# Altium footprint library LPON_IC.PcbLib: 50 footprints (part 3 of 4)
Each footprint in its own frame and in the unit in brackets; x right, y up, seen from the top. Pads: shape width x height; smd on the part's side, far side on the other; paste and mask are expansions set on the pad; w line width, h text height; cw(c..) or ccw(c..) is an arc to the next point about the centre after c.
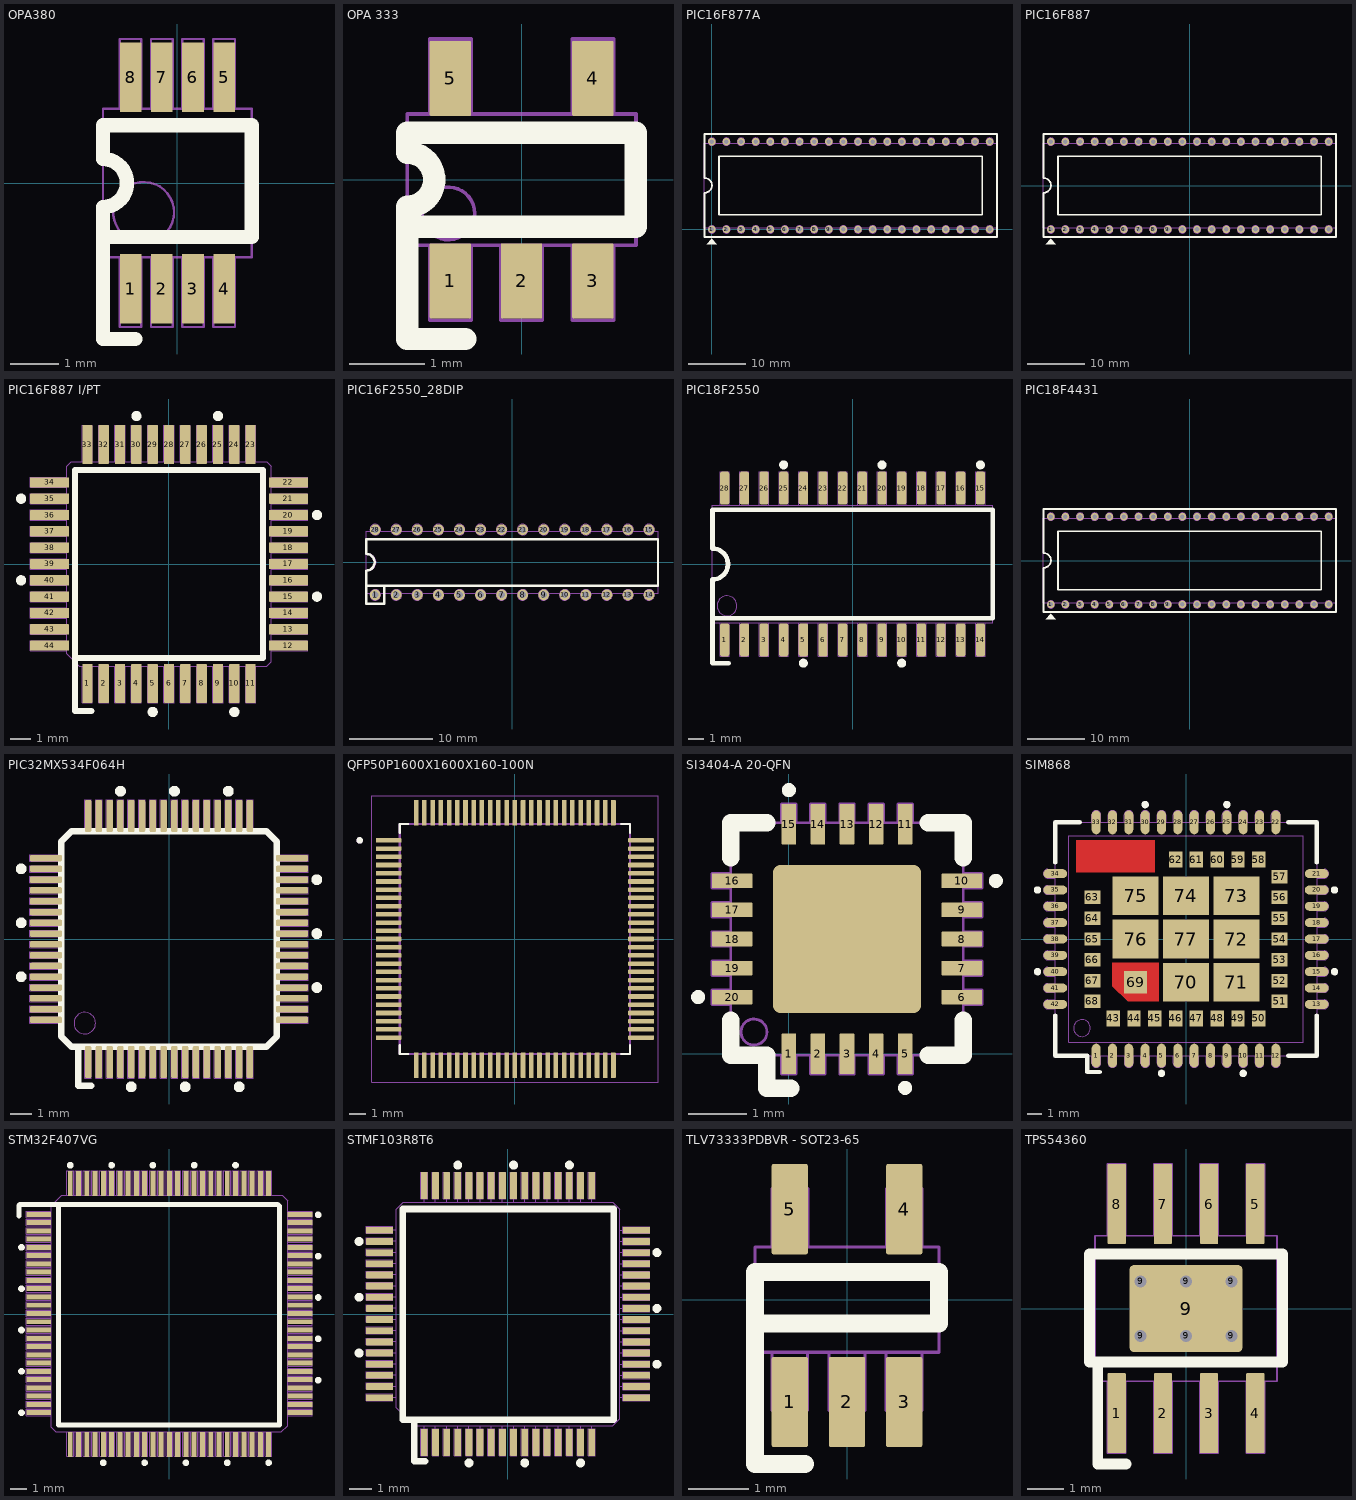
[diagram p2: the footprints below, top view; thin cyan lines are the x and y axes]

## OPA380 [mm] "8 PIN DGK package"
height 1.75
pads (8):
  rrect5% 0.45x1.45 smd mask+0.05: 1(-0.975,-2.2) 2(-0.325,-2.2) 3(0.325,-2.2) 4(0.975,-2.2) 5(0.975,2.2) 6(0.325,2.2) 7(-0.325,2.2) 8(-0.975,2.2)
Top Overlay:
  lines w0.3: -0.875,-3.25 -1.55,-3.25 -1.55,-1.125 ; -1.55,-1.125 1.55,-1.125 1.55,1.2 -1.55,1.2 -1.55,0.5 cw(c-1.55,0) -1.55,-0.5 -1.55,-1.125
ASSY-C:
  circle w0.05: c-0.703,-0.61 r0.632
  lines w0.05: -1.2,-1.55 -1.2,-3 -0.75,-3 -0.75,-1.55 ; -1.2,1.55 -1.2,3 -0.75,3 -0.75,1.55 ; -0.55,-1.575 -0.55,-3 -0.1,-3 -0.1,-1.55 ; -0.55,1.55 -0.55,3 -0.1,3 -0.1,1.55 ; 0.1,-1.55 0.1,-3 0.55,-3 0.55,-1.55 ; 0.1,1.55 0.1,3 0.55,3 0.55,1.55 ; 0.75,-3 0.75,-1.55 ; 0.75,1.55 0.75,3 1.2,3 1.2,1.55 ; 0.775,-3 1.2,-3 1.2,-1.55 ; -1.55,-1.55 -1.55,1.55 1.55,1.55 1.55,-1.55 -1.55,-1.55
  text "8" at -1.1,0.825 h0.5
  text "5" at 0.9,0.85 h0.5
  text "4" at 0.95,-1.35 h0.5
  text "IC?" at 0,0 h0.5

## OPA 333 [mm] "OP APM DBV package"
height 5
pads (5):
  rrect5% 0.55x1 smd mask+0.05: 1(-0.95,-1.35) 2(0,-1.35) 3(0.95,-1.35) 4(0.95,1.35) 5(-0.95,1.35)
Top Overlay:
  lines w0.3: -0.75,-2.125 -1.525,-2.125 -1.525,-0.625 ; -1.525,-0.625 -1.525,-0.361 ccw(c-1.525,0) -1.525,0.361 -1.525,0.625 1.525,0.625 1.525,-0.625 -1.525,-0.625
ASSY-C:
  circle w0.05: c-0.975,-0.45 r0.35
  lines w0.05: -1.225,-0.875 -1.225,-1.875 -0.675,-1.875 -0.675,-0.875 ; -1.225,0.875 -1.225,1.875 -0.675,1.875 -0.675,0.875 ; -0.275,-0.875 -0.275,-1.875 0.275,-1.875 0.275,-0.875 ; 0.675,-0.875 0.675,-1.875 1.225,-1.875 1.225,-0.875 ; 0.675,0.875 0.675,1.875 1.225,1.875 1.225,0.875 ; -1.525,-0.875 -1.525,0.875 1.525,0.875 1.525,-0.875 -1.525,-0.875
  text "IC?" at 0,0 h0.5
  text "5" at -1.15,0.225 h0.5
  text "4" at 0.825,0.225 h0.5
  text "3" at 0.825,-0.675 h0.5

## PIC16F877A [mm] "40 PIN, W 15.24mm, Pin to pin 2.54mm"
height 6.35
pads (40):
  round 1.3 hole 0.8: 1(0,0) 2(2.54,0) 3(5.08,0) 4(7.62,0) 5(10.16,0) 6(12.7,0) 7(15.24,0) 8(17.78,0) 9(20.32,0) 10(22.86,0) 11(25.4,0) 12(27.94,0) 13(30.48,0) 14(33.02,0) 15(35.56,0) 16(38.1,0) 17(40.64,0) 18(43.18,0) 19(45.72,0) 20(48.26,0) 21(48.26,15.24) 22(45.72,15.24) 23(43.18,15.24) 24(40.64,15.24) 25(38.1,15.24) 26(35.56,15.24) 27(33.02,15.24) 28(30.48,15.24) 29(27.94,15.24) 30(25.4,15.24) 31(22.86,15.24) 32(20.32,15.24) 33(17.78,15.24) 34(15.24,15.24) 35(12.7,15.24) 36(10.16,15.24) 37(7.62,15.24) 38(5.08,15.24) 39(2.54,15.24) 40(0,15.24)
Top Overlay:
  region: 0,-1.651 -0.889,-2.54 0.889,-2.54
  lines w0.3: -1.28,6.377 ccw(c-1.237,7.646) -1.27,8.915 ; -1.27,-1.27 -1.27,6.375 ; -1.27,8.941 -1.27,16.58 49.53,16.58 49.53,-1.27 ; -1.26,-1.33 49.54,-1.33 ; 1.27,2.54 1.27,12.7 46.99,12.7 46.99,2.54 1.27,2.54
ASSY-C:
  circle w0.05: c0,0 r0.65
  circle w0.05: c2.54,0 r0.65
  circle w0.05: c0,15.24 r0.65
  circle w0.05: c2.54,15.24 r0.65
  circle w0.05: c7.62,15.24 r0.65
  circle w0.05: c5.08,15.24 r0.65
  circle w0.05: c7.62,0 r0.65
  circle w0.05: c5.08,0 r0.65
  circle w0.05: c12.7,15.24 r0.65
  circle w0.05: c10.16,15.24 r0.65
  circle w0.05: c12.7,0 r0.65
  circle w0.05: c10.16,0 r0.65
  circle w0.05: c17.78,15.24 r0.65
  circle w0.05: c15.24,15.24 r0.65
  circle w0.05: c17.78,0 r0.65
  circle w0.05: c15.24,0 r0.65
  circle w0.05: c22.86,15.24 r0.65
  circle w0.05: c20.32,15.24 r0.65
  circle w0.05: c22.86,0 r0.65
  circle w0.05: c20.32,0 r0.65
  circle w0.05: c27.94,15.24 r0.65
  circle w0.05: c25.4,15.24 r0.65
  circle w0.05: c27.94,0 r0.65
  circle w0.05: c25.4,0 r0.65
  circle w0.05: c33.02,15.24 r0.65
  circle w0.05: c30.48,15.24 r0.65
  circle w0.05: c33.02,0 r0.65
  circle w0.05: c30.48,0 r0.65
  circle w0.05: c38.1,15.24 r0.65
  circle w0.05: c35.56,15.24 r0.65
  circle w0.05: c38.1,0 r0.65
  circle w0.05: c35.56,0 r0.65
  circle w0.05: c43.18,15.24 r0.65
  circle w0.05: c40.64,15.24 r0.65
  circle w0.05: c43.18,0 r0.65
  circle w0.05: c40.64,0 r0.65
  circle w0.05: c48.26,15.24 r0.65
  circle w0.05: c45.72,15.24 r0.65
  circle w0.05: c48.26,0 r0.65
  circle w0.05: c45.72,0 r0.65
  lines w0.05: -1.27,6.32 ccw(c-1.27,7.62) -1.27,8.92 ; -1.27,0.254 49.53,0.254 49.53,14.986 -1.27,14.986 -1.27,0.254
  text "1" at -0.17,0.72 h1
  text "20" at 47.43,0.62 h1
  text "21" at 47.63,13.62 h1
  text "40" at -0.97,13.62 h1
3D body "DIP40.STEP": height 5.7, standoff -2.58, extent -2.083,-0.123 50.367,15.367

## PIC16F887 [mm] "40 PIN, W 15.24mm, Pin to pin 2.54mm"
height 6.35
pads (40):
  round 1.3 hole 0.8: 1(-24.13,-7.62) 2(-21.59,-7.62) 3(-19.05,-7.62) 4(-16.51,-7.62) 5(-13.97,-7.62) 6(-11.43,-7.62) 7(-8.89,-7.62) 8(-6.35,-7.62) 9(-3.81,-7.62) 10(-1.27,-7.62) 11(1.27,-7.62) 12(3.81,-7.62) 13(6.35,-7.62) 14(8.89,-7.62) 15(11.43,-7.62) 16(13.97,-7.62) 17(16.51,-7.62) 18(19.05,-7.62) 19(21.59,-7.62) 20(24.13,-7.62) 21(24.13,7.62) 22(21.59,7.62) 23(19.05,7.62) 24(16.51,7.62) 25(13.97,7.62) 26(11.43,7.62) 27(8.89,7.62) 28(6.35,7.62) 29(3.81,7.62) 30(1.27,7.62) 31(-1.27,7.62) 32(-3.81,7.62) 33(-6.35,7.62) 34(-8.89,7.62) 35(-11.43,7.62) 36(-13.97,7.62) 37(-16.51,7.62) 38(-19.05,7.62) 39(-21.59,7.62) 40(-24.13,7.62)
Top Overlay:
  region: -24.13,-9.271 -25.019,-10.16 -23.241,-10.16
  lines w0.3: -25.41,-1.243 ccw(c-25.367,0.026) -25.4,1.295 ; -25.4,-8.89 -25.4,-1.245 ; -25.4,1.321 -25.4,8.96 25.4,8.96 25.4,-8.89 ; -25.39,-8.95 25.41,-8.95 ; -22.86,-5.08 22.86,-5.08 22.86,5.08 -22.86,5.08 -22.86,-5.08
ASSY-C:
  circle w0.05: c21.59,-7.62 r0.65
  circle w0.05: c24.13,-7.62 r0.65
  circle w0.05: c21.59,7.62 r0.65
  circle w0.05: c24.13,7.62 r0.65
  circle w0.05: c16.51,-7.62 r0.65
  circle w0.05: c19.05,-7.62 r0.65
  circle w0.05: c16.51,7.62 r0.65
  circle w0.05: c19.05,7.62 r0.65
  circle w0.05: c11.43,-7.62 r0.65
  circle w0.05: c13.97,-7.62 r0.65
  circle w0.05: c11.43,7.62 r0.65
  circle w0.05: c13.97,7.62 r0.65
  circle w0.05: c6.35,-7.62 r0.65
  circle w0.05: c8.89,-7.62 r0.65
  circle w0.05: c6.35,7.62 r0.65
  circle w0.05: c8.89,7.62 r0.65
  circle w0.05: c1.27,-7.62 r0.65
  circle w0.05: c3.81,-7.62 r0.65
  circle w0.05: c1.27,7.62 r0.65
  circle w0.05: c3.81,7.62 r0.65
  circle w0.05: c-3.81,-7.62 r0.65
  circle w0.05: c-1.27,-7.62 r0.65
  circle w0.05: c-3.81,7.62 r0.65
  circle w0.05: c-1.27,7.62 r0.65
  circle w0.05: c-8.89,-7.62 r0.65
  circle w0.05: c-6.35,-7.62 r0.65
  circle w0.05: c-8.89,7.62 r0.65
  circle w0.05: c-6.35,7.62 r0.65
  circle w0.05: c-13.97,-7.62 r0.65
  circle w0.05: c-11.43,-7.62 r0.65
  circle w0.05: c-13.97,7.62 r0.65
  circle w0.05: c-11.43,7.62 r0.65
  circle w0.05: c-19.05,-7.62 r0.65
  circle w0.05: c-16.51,-7.62 r0.65
  circle w0.05: c-19.05,7.62 r0.65
  circle w0.05: c-16.51,7.62 r0.65
  circle w0.05: c-21.59,7.62 r0.65
  circle w0.05: c-24.13,7.62 r0.65
  circle w0.05: c-21.59,-7.62 r0.65
  circle w0.05: c-24.13,-7.62 r0.65
  lines w0.05: -25.4,-1.3 ccw(c-25.4,0) -25.4,1.3 ; -25.4,-7.366 -25.4,7.366 25.4,7.366 25.4,-7.366 -25.4,-7.366
  text "40" at -25.1,6 h1
  text "21" at 23.5,6 h1
  text "20" at 23.3,-7 h1
  text "1" at -24.3,-6.9 h1
3D body "DIP40.STEP": height 5.7, standoff -2.58, extent -26.213,-7.743 26.237,7.747

## PIC16F887 I/PT [mm] "44-Lead Plastic Thin Quad Flatpack (PT) – 10x10x1 mm Body, 2.00 mm Footprint [TQFP]"
height 1.2
pads (44):
  rrect10% 0.5x1.9 smd mask+0.1: 1(-4,-5.85) 2(-3.2,-5.85) 3(-2.4,-5.85) 4(-1.6,-5.85) 5(-0.8,-5.85) 6(0,-5.85) 7(0.8,-5.85) 8(1.6,-5.85) 9(2.4,-5.85) 10(3.2,-5.85) 11(4,-5.85) 23(4,5.85) 24(3.2,5.85) 25(2.4,5.85) 26(1.6,5.85) 27(0.8,5.85) 28(0,5.85) 29(-0.8,5.85) 30(-1.6,5.85) 31(-2.4,5.85) 32(-3.2,5.85) 33(-4,5.85)
  rrect10% 1.9x0.5 smd mask+0.1: 12(5.85,-4) 13(5.85,-3.2) 14(5.85,-2.4) 15(5.85,-1.6) 16(5.85,-0.8) 17(5.85,0) 18(5.85,0.8) 19(5.85,1.6) 20(5.85,2.4) 21(5.85,3.2) 22(5.85,4) 34(-5.85,4) 35(-5.85,3.2) 36(-5.85,2.4) 37(-5.85,1.6) 38(-5.85,0.8) 39(-5.85,0) 40(-5.85,-0.8) 41(-5.85,-1.6) 42(-5.85,-2.4) 43(-5.85,-3.2) 44(-5.85,-4)
Top Overlay:
  circle w0.3: c-7.25,-0.8 r0.1
  circle w0.3: c-7.25,3.2 r0.1
  circle w0.3: c-1.6,7.25 r0.1
  circle w0.3: c2.4,7.25 r0.1
  circle w0.3: c7.25,2.4 r0.1
  circle w0.3: c7.25,-1.6 r0.1
  circle w0.3: c3.2,-7.25 r0.1
  circle w0.3: c-0.8,-7.25 r0.1
  lines w0.3: -3.8,-7.2 -4.6,-7.2 -4.6,-4.6 ; -4.6,-4.6 4.6,-4.6 4.6,4.6 -4.6,4.6 -4.6,-4.6
ASSY-C:
  drawing of 152 lines, arcs and shapes, not listed
  text "1" at -3.8,-4.8 h0.8
  text "11" at 3,-4.8 h0.8
  text "12" at 4.6,-3.8 h0.8
  text "22" at 4.8,2.4 h0.8
  text "23" at 2.8,3.8 h0.8
  text "33" at -3.8,3.8 h0.8
  text "34" at -3.8,2.4 h0.8
  text "44" at -3.8,-3.8 h0.8

## PIC16F2550_28DIP [mm] "DIP 28, w7.62, PIN TO PIN 2.54"
height 4.06
pads (28):
  round 1.3 hole 0.8: 1(-16.51,-3.935) 2(-13.97,-3.935) 3(-11.43,-3.935) 4(-8.89,-3.935) 5(-6.35,-3.935) 6(-3.81,-3.935) 7(-1.27,-3.935) 8(1.27,-3.935) 9(3.81,-3.935) 10(6.35,-3.935) 11(8.89,-3.935) 12(11.43,-3.935) 13(13.97,-3.935) 14(16.51,-3.935) 15(16.51,3.935) 16(13.97,3.935) 17(11.43,3.935) 18(8.89,3.935) 19(6.35,3.935) 20(3.81,3.935) 21(1.27,3.935) 22(-1.27,3.935) 23(-3.81,3.935) 24(-6.35,3.935) 25(-8.89,3.935) 26(-11.43,3.935) 27(-13.97,3.935) 28(-16.51,3.935)
Top Overlay:
  lines w0.3: -15.41,-2.81 -15.41,-5 -17.59,-5 -17.59,-2.81 ; -17.59,-2.81 17.59,-2.81 17.59,2.79 -17.59,2.79 -17.59,1 cw(c-17.59,0) -17.59,-1 -17.59,-2.81
ASSY-C:
  circle w0.05: c16.51,3.935 r0.65
  circle w0.05: c13.97,3.935 r0.65
  circle w0.05: c11.43,3.935 r0.65
  circle w0.05: c8.89,3.935 r0.65
  circle w0.05: c6.35,3.935 r0.65
  circle w0.05: c3.81,3.935 r0.65
  circle w0.05: c1.27,3.935 r0.65
  circle w0.05: c-1.27,3.935 r0.65
  circle w0.05: c-3.81,3.935 r0.65
  circle w0.05: c-6.35,3.935 r0.65
  circle w0.05: c-8.89,3.935 r0.65
  circle w0.05: c-11.43,3.935 r0.65
  circle w0.05: c-13.97,3.935 r0.65
  circle w0.05: c-16.51,3.935 r0.65
  circle w0.05: c-16.51,-3.935 r0.65
  circle w0.05: c16.51,-3.935 r0.65
  circle w0.05: c13.97,-3.935 r0.65
  circle w0.05: c11.43,-3.935 r0.65
  circle w0.05: c8.89,-3.935 r0.65
  circle w0.05: c6.35,-3.935 r0.65
  circle w0.05: c3.81,-3.935 r0.65
  circle w0.05: c1.27,-3.935 r0.65
  circle w0.05: c-1.27,-3.935 r0.65
  circle w0.05: c-3.81,-3.935 r0.65
  circle w0.05: c-6.35,-3.935 r0.65
  circle w0.05: c-8.89,-3.935 r0.65
  circle w0.05: c-11.43,-3.935 r0.65
  circle w0.05: c-13.97,-3.935 r0.65
  lines w0.05: -17.399,-1 ccw(c-17.399,0) -17.399,1 ; -17.59,-3.745 -17.59,3.745 17.59,3.745 17.59,-3.745 -17.59,-3.745
  text "28" at -17,1.7 h1.2
  text "15" at 15.4,1.8 h1.2
  text "14" at 15.6,-3 h1.2
  text "1" at -16.6,-3 h1.2
3D body "User Library-DIP28-300.step": height 5.08, standoff -2.49, extent -17.91,-3.845 18.09,4.025

## PIC18F2550 [mm] "28-Lead Plastic Small Outline (SO) – Wide, 300 mil Body (SOIC)"
height 2.64
pads (28):
  rrect50% 0.6x2.14 smd mask+0.1: 1(-8.255,-4.9) 2(-6.985,-4.9) 3(-5.715,-4.9) 4(-4.445,-4.9) 5(-3.175,-4.9) 6(-1.905,-4.9) 7(-0.635,-4.9) 8(0.635,-4.9) 9(1.905,-4.9) 10(3.175,-4.9) 11(4.445,-4.9) 12(5.715,-4.9) 13(6.985,-4.9) 14(8.255,-4.9) 15(8.255,4.9) 16(6.985,4.9) 17(5.715,4.9) 18(4.445,4.9) 19(3.175,4.9) 20(1.905,4.9) 21(0.635,4.9) 22(-0.635,4.9) 23(-1.905,4.9) 24(-3.175,4.9) 25(-4.445,4.9) 26(-5.715,4.9) 27(-6.985,4.9) 28(-8.255,4.9)
Top Overlay:
  circle w0.3: c-3.175,-6.4 r0.141
  circle w0.3: c3.175,-6.4 r0.141
  circle w0.3: c8.255,6.4 r0.141
  circle w0.3: c1.905,6.4 r0.141
  circle w0.3: c-4.445,6.4 r0.141
  lines w0.3: -8,-6.4 -9.04,-6.4 -9.04,-3.5 ; -9.04,-3.5 9.04,-3.5 9.04,3.5 -9.04,3.5 -9.04,1 cw(c-9.04,0) -9.04,-1 -9.04,-3.5
ASSY-C:
  circle w0.05: c-8.1,-2.7 r0.64
  lines w0.05: -9.04,-1 ccw(c-9.04,0) -9.04,1 ; -9.04,-3.795 9.04,-3.795 9.04,3.795 -9.04,3.795 -9.04,-3.795 ; -8.555,-5.97 -7.955,-5.97 -7.955,-3.795 -8.555,-3.795 -8.555,-5.97 ; -8.555,3.795 -8.555,5.97 -7.955,5.97 -7.955,3.795 -8.555,3.795 ; -7.285,-5.97 -7.285,-3.795 -6.685,-3.795 -6.685,-5.97 -7.285,-5.97 ; -7.285,3.795 -7.285,5.97 -6.685,5.97 -6.685,3.795 -7.285,3.795 ; -6.015,-5.97 -6.015,-3.795 -5.415,-3.795 -5.415,-5.97 -6.015,-5.97 ; -6.015,3.795 -6.015,5.97 -5.415,5.97 -5.415,3.795 -6.015,3.795 ; -4.745,-5.97 -4.745,-3.795 -4.145,-3.795 -4.145,-5.97 -4.745,-5.97 ; -4.745,3.795 -4.745,5.97 -4.145,5.97 -4.145,3.795 -4.745,3.795 ; -3.475,-5.97 -3.475,-3.795 -2.875,-3.795 -2.875,-5.97 -3.475,-5.97 ; -3.475,3.795 -3.475,5.97 -2.875,5.97 -2.875,3.795 -3.475,3.795 ; -2.205,-5.97 -2.205,-3.795 -1.605,-3.795 -1.605,-5.97 -2.205,-5.97 ; -2.205,3.795 -2.205,5.97 -1.605,5.97 -1.605,3.795 -2.205,3.795 ; -0.935,-5.97 -0.935,-3.795 -0.335,-3.795 -0.335,-5.97 -0.935,-5.97 ; -0.935,3.795 -0.935,5.97 -0.335,5.97 -0.335,3.795 -0.935,3.795 ; 0.335,-5.97 0.335,-3.795 0.935,-3.795 0.935,-5.97 0.335,-5.97 ; 0.335,3.795 0.335,5.97 0.935,5.97 0.935,3.795 0.335,3.795 ; 1.605,-5.97 1.605,-3.795 2.205,-3.795 2.205,-5.97 1.605,-5.97 ; 1.605,3.795 1.605,5.97 2.205,5.97 2.205,3.795 1.605,3.795 ; 2.875,-5.97 2.875,-3.795 3.475,-3.795 3.475,-5.97 2.875,-5.97 ; 2.875,3.795 2.875,5.97 3.475,5.97 3.475,3.795 2.875,3.795 ; 4.145,-5.97 4.145,-3.795 4.745,-3.795 4.745,-5.97 4.145,-5.97 ; 4.145,3.795 4.145,5.97 4.745,5.97 4.745,3.795 4.145,3.795 ; 5.415,-5.97 5.415,-3.795 6.015,-3.795 6.015,-5.97 5.415,-5.97 ; 5.415,3.795 5.415,5.97 6.015,5.97 6.015,3.795 5.415,3.795 ; 6.685,-5.97 6.685,-3.795 7.285,-3.795 7.285,-5.97 6.685,-5.97 ; 6.685,3.795 6.685,5.97 7.285,5.97 7.285,3.795 6.685,3.795 ; 7.955,-5.97 7.955,-3.795 8.555,-3.795 8.555,-5.97 7.955,-5.97 ; 7.955,3.795 7.955,5.97 8.555,5.97 8.555,3.795 7.955,3.795
  text "28" at -8.8,2.6 h1
  text "15" at 7.2,2.6 h1
  text "14" at 7.2,-3.6 h1
3D body "User Library-SOIC-28-300.STEP": height 2.67, standoff 0.07, extent -9.05,-5.3 9.05,5.3

## PIC18F4431 [mm] "40 PIN, W 15.24mm, Pin to pin 2.54mm"
height 6.35
pads (40):
  round 1.3 hole 0.8: 1(-24.13,-7.62) 2(-21.59,-7.62) 3(-19.05,-7.62) 4(-16.51,-7.62) 5(-13.97,-7.62) 6(-11.43,-7.62) 7(-8.89,-7.62) 8(-6.35,-7.62) 9(-3.81,-7.62) 10(-1.27,-7.62) 11(1.27,-7.62) 12(3.81,-7.62) 13(6.35,-7.62) 14(8.89,-7.62) 15(11.43,-7.62) 16(13.97,-7.62) 17(16.51,-7.62) 18(19.05,-7.62) 19(21.59,-7.62) 20(24.13,-7.62) 21(24.13,7.62) 22(21.59,7.62) 23(19.05,7.62) 24(16.51,7.62) 25(13.97,7.62) 26(11.43,7.62) 27(8.89,7.62) 28(6.35,7.62) 29(3.81,7.62) 30(1.27,7.62) 31(-1.27,7.62) 32(-3.81,7.62) 33(-6.35,7.62) 34(-8.89,7.62) 35(-11.43,7.62) 36(-13.97,7.62) 37(-16.51,7.62) 38(-19.05,7.62) 39(-21.59,7.62) 40(-24.13,7.62)
Top Overlay:
  region: -24.13,-9.271 -25.019,-10.16 -23.241,-10.16
  lines w0.3: -25.41,-1.243 ccw(c-25.367,0.026) -25.4,1.295 ; -25.4,-8.89 -25.4,-1.245 ; -25.4,1.321 -25.4,8.96 25.4,8.96 25.4,-8.89 ; -25.39,-8.95 25.41,-8.95 ; -22.86,-5.08 -22.86,5.08 22.86,5.08 22.86,-5.08 -22.86,-5.08
ASSY-C:
  circle w0.05: c-24.13,-7.62 r0.65
  circle w0.05: c-21.59,-7.62 r0.65
  circle w0.05: c-24.13,7.62 r0.65
  circle w0.05: c-21.59,7.62 r0.65
  circle w0.05: c-16.51,7.62 r0.65
  circle w0.05: c-19.05,7.62 r0.65
  circle w0.05: c-16.51,-7.62 r0.65
  circle w0.05: c-19.05,-7.62 r0.65
  circle w0.05: c-11.43,7.62 r0.65
  circle w0.05: c-13.97,7.62 r0.65
  circle w0.05: c-11.43,-7.62 r0.65
  circle w0.05: c-13.97,-7.62 r0.65
  circle w0.05: c-6.35,7.62 r0.65
  circle w0.05: c-8.89,7.62 r0.65
  circle w0.05: c-6.35,-7.62 r0.65
  circle w0.05: c-8.89,-7.62 r0.65
  circle w0.05: c-1.27,7.62 r0.65
  circle w0.05: c-3.81,7.62 r0.65
  circle w0.05: c-1.27,-7.62 r0.65
  circle w0.05: c-3.81,-7.62 r0.65
  circle w0.05: c3.81,7.62 r0.65
  circle w0.05: c1.27,7.62 r0.65
  circle w0.05: c3.81,-7.62 r0.65
  circle w0.05: c1.27,-7.62 r0.65
  circle w0.05: c8.89,7.62 r0.65
  circle w0.05: c6.35,7.62 r0.65
  circle w0.05: c8.89,-7.62 r0.65
  circle w0.05: c6.35,-7.62 r0.65
  circle w0.05: c13.97,7.62 r0.65
  circle w0.05: c11.43,7.62 r0.65
  circle w0.05: c13.97,-7.62 r0.65
  circle w0.05: c11.43,-7.62 r0.65
  circle w0.05: c19.05,7.62 r0.65
  circle w0.05: c16.51,7.62 r0.65
  circle w0.05: c19.05,-7.62 r0.65
  circle w0.05: c16.51,-7.62 r0.65
  circle w0.05: c24.13,7.62 r0.65
  circle w0.05: c21.59,7.62 r0.65
  circle w0.05: c24.13,-7.62 r0.65
  circle w0.05: c21.59,-7.62 r0.65
  lines w0.05: -25.4,-1.3 ccw(c-25.4,0) -25.4,1.3 ; -25.4,-7.366 25.4,-7.366 25.4,7.366 -25.4,7.366 -25.4,-7.366
  text "1" at -24.3,-6.9 h1
  text "20" at 23.3,-7 h1
  text "21" at 23.5,6 h1
  text "40" at -25.1,6 h1
3D body "DIP40.STEP": height 5.7, standoff -2.58, extent -26.213,-7.743 26.237,7.747

## PIC32MX534F064H [mm] "64 Lead Plastic Thin Quad Flatpack 10x10x1mm body"
height 1.2
pads (66):
  rrect50% 0.3x1.5 smd mask+0.1: 1(-3.75,-5.7) 2(-3.25,-5.7) 3(-2.75,-5.7) 4(-2.25,-5.7) 5(-1.75,-5.7) 6(-1.25,-5.7) 7(-0.75,-5.7) 8(-0.25,-5.7) 9(0.25,-5.7) 10(0.75,-5.7) 11(1.25,-5.7) 12(1.75,-5.7) 13(2.25,-5.7) 14(2.75,-5.7) 15(3.25,-5.7) 16(3.75,-5.7) 33(3.75,5.7) 34(3.25,5.7) 35(2.75,5.7) 36(2.25,5.7) 37(1.75,5.7) 38(1.25,5.7) 39(0.75,5.7) 40(0.25,5.7) 41(-0.25,5.7) 42(-0.75,5.7) 43(-1.25,5.7) 44(-1.75,5.7) 45(-2.25,5.7) 46(-2.75,5.7) 47(-3.25,5.7) 48(-3.75,5.7) 48(-3.75,5.7)
  rrect50% 1.5x0.3 smd mask+0.1: 17(5.7,-3.75) 18(5.7,-3.25) 19(5.7,-2.75) 20(5.7,-2.25) 21(5.7,-1.75) 22(5.7,-1.25) 23(5.7,-0.75) 24(5.7,-0.25) 25(5.7,0.25) 26(5.7,0.75) 27(5.7,1.25) 28(5.7,1.75) 29(5.7,2.25) 30(5.7,2.75) 31(5.7,3.25) 32(5.7,3.75) 32(5.7,3.75) 49(-5.7,3.75) 50(-5.7,3.25) 51(-5.7,2.75) 52(-5.7,2.25) 53(-5.7,1.75) 54(-5.7,1.25) 55(-5.7,0.75) 56(-5.7,0.25) 57(-5.7,-0.25) 58(-5.7,-0.75) 59(-5.7,-1.25) 60(-5.7,-1.75) 61(-5.7,-2.25) 62(-5.7,-2.75) 63(-5.7,-3.25) 64(-5.7,-3.75)
Top Overlay:
  circle w0.3: c-6.85,-1.75 r0.1
  circle w0.3: c-6.85,0.75 r0.1
  circle w0.3: c-6.85,3.25 r0.1
  circle w0.3: c-2.25,6.85 r0.1
  circle w0.3: c0.25,6.85 r0.1
  circle w0.3: c2.75,6.85 r0.1
  circle w0.3: c6.85,2.75 r0.1
  circle w0.3: c6.85,0.25 r0.1
  circle w0.3: c6.85,-2.25 r0.1
  circle w0.3: c3.25,-6.85 r0.1
  circle w0.3: c0.75,-6.85 r0.1
  circle w0.3: c-1.75,-6.85 r0.1
  lines w0.3: -4.2,-5 -4.2,-6.8 -3.6,-6.8 ; -5,-4.5 -5,4.5 -4.5,5 4.5,5 5,4.5 5,-4.5 4.5,-5 -4.5,-5 -5,-4.5
ASSY-C:
  drawing of 265 lines, arcs and shapes, not listed
  text "16" at 2.8,-4.8 h0.8
  text "17" at 4.8,-4 h0.8
  text "32" at 4.8,2.5 h0.8
  text "33" at 2.7,4 h0.8
  text "48" at -4,4 h0.8
  text "49" at -4,2.5 h0.8
  text "64" at -3.9,-3.2 h0.8
3D body "User Library-LQFP64-1.step": height 1.56, standoff 0, extent -6.01,-6.05 5.99,5.95

## QFP50P1600X1600X160-100N [mm]
pads (100):
  rrect25% 1.56x0.28 smd: 1(-7.68,6) 2(-7.68,5.5) 3(-7.68,5) 4(-7.68,4.5) 5(-7.68,4) 6(-7.68,3.5) 7(-7.68,3) 8(-7.68,2.5) 9(-7.68,2) 10(-7.68,1.5) 11(-7.68,1) 12(-7.68,0.5) 13(-7.68,0) 14(-7.68,-0.5) 15(-7.68,-1) 16(-7.68,-1.5) 17(-7.68,-2) 18(-7.68,-2.5) 19(-7.68,-3) 20(-7.68,-3.5) 21(-7.68,-4) 22(-7.68,-4.5) 23(-7.68,-5) 24(-7.68,-5.5) 25(-7.68,-6) 51(7.68,-6) 52(7.68,-5.5) 53(7.68,-5) 54(7.68,-4.5) 55(7.68,-4) 56(7.68,-3.5) 57(7.68,-3) 58(7.68,-2.5) 59(7.68,-2) 60(7.68,-1.5) 61(7.68,-1) 62(7.68,-0.5) 63(7.68,0) 64(7.68,0.5) 65(7.68,1) 66(7.68,1.5) 67(7.68,2) 68(7.68,2.5) 69(7.68,3) 70(7.68,3.5) 71(7.68,4) 72(7.68,4.5) 73(7.68,5) 74(7.68,5.5) 75(7.68,6)
  rrect25% 0.28x1.56 smd: 26(-6,-7.68) 27(-5.5,-7.68) 28(-5,-7.68) 29(-4.5,-7.68) 30(-4,-7.68) 31(-3.5,-7.68) 32(-3,-7.68) 33(-2.5,-7.68) 34(-2,-7.68) 35(-1.5,-7.68) 36(-1,-7.68) 37(-0.5,-7.68) 38(0,-7.68) 39(0.5,-7.68) 40(1,-7.68) 41(1.5,-7.68) 42(2,-7.68) 43(2.5,-7.68) 44(3,-7.68) 45(3.5,-7.68) 46(4,-7.68) 47(4.5,-7.68) 48(5,-7.68) 49(5.5,-7.68) 50(6,-7.68) 76(6,7.68) 77(5.5,7.68) 78(5,7.68) 79(4.5,7.68) 80(4,7.68) 81(3.5,7.68) 82(3,7.68) 83(2.5,7.68) 84(2,7.68) 85(1.5,7.68) 86(1,7.68) 87(0.5,7.68) 88(0,7.68) 89(-0.5,7.68) 90(-1,7.68) 91(-1.5,7.68) 92(-2,7.68) 93(-2.5,7.68) 94(-3,7.68) 95(-3.5,7.68) 96(-4,7.68) 97(-4.5,7.68) 98(-5,7.68) 99(-5.5,7.68) 100(-6,7.68)
Top Overlay:
  circle w0.2: c-9.44,6 r0.1
  lines w0.127: -7,-6.46 -7,-7 -6.46,-7 ; -7,6.46 -7,7 -6.46,7 ; 6.46,-7 7,-7 7,-6.46 ; 6.46,7 7,7 7,6.46
Mechanical 13:
  circle w0.2: c-9.44,6 r0.1
  lines w0.127: -7,-7 7,-7 7,7 -7,7 -7,-7
Mechanical 15:
  lines w0.05: -8.71,-8.71 8.71,-8.71 8.71,8.71 -8.71,8.71 -8.71,-8.71
3D body "step_temp.STEP": height 1.6, standoff 0, extent -8,-8 8,8

## SI3404-A 20-QFN [mm] "TYPE 1 COMPLIANT PD INTERFACE 20-QFN"
height 0.9
pads (21):
  rrect10% 0.25x0.7 smd mask+0.05: 1(0,0) 2(0.5,0) 3(1,0) 4(1.5,0) 5(2,0) 11(2,3.95) 12(1.5,3.95) 13(1,3.95) 14(0.5,3.95) 15(0,3.95)
  rrect10% 0.7x0.25 smd mask+0.05: 6(2.975,0.975) 7(2.975,1.475) 8(2.975,1.975) 9(2.975,2.475) 10(2.975,2.975) 16(-0.975,2.975) 17(-0.975,2.475) 18(-0.975,1.975) 19(-0.975,1.475) 20(-0.975,0.975)
  rrect10% 2.55x2.55 smd: ""(1,1.975)
Top Overlay:
  circle w0.2: c-1.56,0.975 r0.02
  circle w0.2: c0,4.535 r0.02
  circle w0.2: c3.56,2.975 r0.02
  circle w0.2: c2,-0.585 r0.02
  lines w0.3: -1,0.575 -1,-0.025 -0.38,-0.025 -0.38,-0.525 -0.38,-0.595 0.03,-0.595 ; -1,3.375 -1,3.975 -0.376,3.975 ; 2.4,-0.025 3,-0.025 3,0.575 ; 2.4,3.975 3,3.975 3,3.375
ASSY-C:
  circle w0.05: c-0.6,0.375 r0.224
  lines w0.05: -1,0.85 -1.325,0.85 -1.325,1.1 -1,1.1 ; -1,1.35 -1.325,1.35 -1.325,1.6 -1,1.6 ; -1,1.85 -1.325,1.85 -1.325,2.1 -1,2.1 ; -1,2.35 -1.325,2.35 -1.325,2.6 -1,2.6 ; -1,2.85 -1.325,2.85 -1.325,3.1 -1,3.1 ; -0.125,-0.025 -0.125,-0.35 0.125,-0.35 0.125,-0.025 ; -0.125,3.975 -0.125,4.3 0.125,4.3 0.125,3.975 ; 0.375,-0.025 0.375,-0.35 0.625,-0.35 0.625,-0.025 ; 0.375,3.975 0.375,4.3 0.625,4.3 0.625,3.975 ; 0.875,-0.025 0.875,-0.35 1.125,-0.35 1.125,-0.025 ; 0.875,3.975 0.875,4.3 1.125,4.3 1.125,3.975 ; 1.375,-0.025 1.375,-0.35 1.625,-0.35 1.625,-0.025 ; 1.375,3.975 1.375,4.3 1.625,4.3 1.625,3.975 ; 1.875,-0.025 1.875,-0.35 2.125,-0.35 2.125,-0.025 ; 1.875,3.975 1.875,4.3 2.125,4.3 2.125,3.975 ; 3,0.85 3.325,0.85 3.325,1.1 3,1.1 ; 3,1.35 3.325,1.35 3.325,1.6 3,1.6 ; 3,1.85 3.325,1.85 3.325,2.1 3,2.1 ; 3,2.35 3.325,2.35 3.325,2.6 3,2.6 ; 3,2.85 3.325,2.85 3.325,3.1 3,3.1 ; -1,-0.025 -1,3.975 3,3.975 3,-0.025 -1,-0.025
  text "20" at -0.3,0.9 h0.5
  text "16" at -0.3,2.475 h0.5
  text "15" at -0.125,3.3 h0.5
  text "11" at 1.625,3.3 h0.5
  text "10" at 2,2.6 h0.5
  text "6" at 2.5,0.775 h0.5
  text "5" at 1.9,0.175 h0.5
  text "1" at 0,0.175 h0.5
3D body "User Library-QFN4x4_20pins.step": height 0.72, standoff -0.08, extent -1.02,-0.045 3.02,3.995

## SIM868 [mm] "SIM868_Hardware_Design_V1.00"
height 2.6
pads (77):
  oval 0.6x1.6 smd mask+0.1: 1(-6.05,-7.85) 2(-4.95,-7.85) 3(-3.85,-7.85) 4(-2.75,-7.85) 5(-1.65,-7.85) 6(-0.55,-7.85) 7(0.55,-7.85) 8(1.65,-7.85) 9(2.75,-7.85) 10(3.85,-7.85) 11(4.95,-7.85) 12(6.05,-7.85) 22(6.05,7.85) 23(4.95,7.85) 24(3.85,7.85) 25(2.75,7.85) 26(1.65,7.85) 27(0.55,7.85) 28(-0.55,7.85) 29(-1.65,7.85) 30(-2.75,7.85) 31(-3.85,7.85) 32(-4.95,7.85) 33(-6.05,7.85)
  oval 1.6x0.6 smd mask+0.1: 13(8.8,-4.4) 14(8.8,-3.3) 15(8.8,-2.2) 16(8.8,-1.1) 17(8.8,0) 18(8.8,1.1) 19(8.8,2.2) 20(8.8,3.3) 21(8.8,4.4) 34(-8.8,4.4) 35(-8.8,3.3) 36(-8.8,2.2) 37(-8.8,1.1) 38(-8.8,0) 39(-8.8,-1.1) 40(-8.8,-2.2) 41(-8.8,-3.3) 42(-8.8,-4.4)
  rect 0.9x1.1 smd mask+0.1: 43(-4.9,-5.35) 44(-3.5,-5.35) 45(-2.1,-5.35) 46(-0.7,-5.35) 47(0.7,-5.35) 48(2.1,-5.35) 49(3.5,-5.35) 50(4.9,-5.35) 58(4.9,5.35) 59(3.5,5.35) 60(2.1,5.35) 61(0.7,5.35) 62(-0.7,5.35)
  rect 1.1x0.9 smd mask+0.1: 51(6.3,-4.2) 52(6.3,-2.8) 53(6.3,-1.4) 54(6.3,0) 55(6.3,1.4) 56(6.3,2.8) 57(6.3,4.2) 63(-6.3,2.8) 64(-6.3,1.4) 65(-6.3,0) 66(-6.3,-1.4) 67(-6.3,-2.8) 68(-6.3,-4.2)
  rect 1.524x1.524 smd mask+0: 69(-3.4,-2.9)
  rect 3.1x2.6 smd mask+0.1: 70(0,-2.9) 71(3.4,-2.9) 72(3.4,0) 73(3.4,2.9) 74(0,2.9) 75(-3.4,2.9) 76(-3.4,0) 77(0,0)
Top Layer:
  pour cut-out: -7.4,6.65 -2.1,6.65 -2.1,4.5 -7.4,4.5
  region: -4.95,-3.17 -4.95,-1.6 -1.85,-1.6 -1.85,-4.2 -3.92,-4.2
Top Overlay:
  circle w0.3: c-1.65,-9.05 r0.1
  circle w0.3: c3.85,-9.05 r0.1
  circle w0.3: c10,-2.2 r0.1
  circle w0.3: c10,3.3 r0.1
  circle w0.3: c2.75,9.05 r0.1
  circle w0.3: c-2.75,9.05 r0.1
  circle w0.3: c-10,3.3 r0.1
  circle w0.3: c-10,-2.2 r0.1
  lines w0.3: -8.8,-5.15 -8.8,-7.85 -6.663,-7.85 -6.663,-8.955 -5.798,-8.955 ; -8.8,5.15 -8.8,7.85 -7.15,7.85 ; 6.9,-7.85 8.8,-7.85 8.8,-5.15 ; 6.9,7.85 8.8,7.85 8.8,5.15
Top Paste:
  region: -4.95,-3.17 -4.95,-1.6 -1.85,-1.6 -1.85,-4.2 -3.92,-4.2
Top Solder:
  region: -5.05,-3.27 -5.05,-1.5 -1.75,-1.5 -1.75,-4.3 -4.02,-4.3
Top hinh chieu bang:
  circle w0.05: c-7,-6 r0.566
  lines w0.05: -9.3,2.5 ccw(c-9.3,2.2) -9.3,1.9 -8.8,1.9 ; -9.3,2.5 -8.8,2.5 ; -8.8,-4.7 -9.3,-4.7 cw(c-9.3,-4.4) -9.3,-4.1 -8.8,-4.1 ; -8.8,-3.6 -9.3,-3.6 cw(c-9.3,-3.3) -9.3,-3 -8.8,-3 ; -8.8,-2.5 -9.3,-2.5 cw(c-9.3,-2.2) -9.3,-1.9 -8.8,-1.9 ; -8.8,-1.4 -9.3,-1.4 cw(c-9.3,-1.1) -9.3,-0.8 -8.8,-0.8 ; -8.8,-0.3 -9.3,-0.3 cw(c-9.3,0) -9.3,0.3 -8.8,0.3 ; -8.8,0.8 -9.3,0.8 cw(c-9.3,1.1) -9.3,1.4 -8.8,1.4 ; -8.8,3 -9.3,3 cw(c-9.3,3.3) -9.3,3.6 -8.8,3.6 ; -6.35,7.85 -6.35,8.35 cw(c-6.05,8.35) -5.75,8.35 -5.75,7.85 ; -5.25,-7.85 -5.25,-8.35 ccw(c-4.95,-8.35) -4.65,-8.35 -4.65,-7.85 ; -5.25,7.85 -5.25,8.35 cw(c-4.95,8.35) -4.65,8.35 -4.65,7.85 ; -4.15,-7.85 -4.15,-8.35 ccw(c-3.85,-8.35) -3.55,-8.35 -3.55,-7.85 ; -4.15,7.85 -4.15,8.35 cw(c-3.85,8.35) -3.55,8.35 -3.55,7.85 ; -3.05,-7.85 -3.05,-8.35 ccw(c-2.75,-8.35) -2.45,-8.35 -2.45,-7.85 ; -3.05,7.85 -3.05,8.35 cw(c-2.75,8.35) -2.45,8.35 -2.45,7.85 ; -1.95,-7.85 -1.95,-8.35 ccw(c-1.65,-8.35) -1.35,-8.35 -1.35,-7.85 ; -1.95,7.85 -1.95,8.35 cw(c-1.65,8.35) -1.35,8.35 -1.35,7.85 ; -0.85,-7.85 -0.85,-8.35 ccw(c-0.55,-8.35) -0.25,-8.35 -0.25,-7.85 ; -0.85,7.85 -0.85,8.35 cw(c-0.55,8.35) -0.25,8.35 -0.25,7.85 ; 0.25,-7.85 0.25,-8.35 ccw(c0.55,-8.35) 0.85,-8.35 0.85,-7.85 ; 0.25,7.85 0.25,8.35 cw(c0.55,8.35) 0.85,8.35 0.85,7.85 ; 1.35,-7.85 1.35,-8.35 ccw(c1.65,-8.35) 1.95,-8.35 1.95,-7.85 ; 1.35,7.85 1.35,8.35 cw(c1.65,8.35) 1.95,8.35 1.95,7.85 ; 2.45,-7.85 2.45,-8.35 ccw(c2.75,-8.35) 3.05,-8.35 3.05,-7.85 ; 2.45,7.85 2.45,8.35 cw(c2.75,8.35) 3.05,8.35 3.05,7.85 ; 3.55,-7.85 3.55,-8.35 ccw(c3.85,-8.35) 4.15,-8.35 4.15,-7.85 ; 3.55,7.85 3.55,8.35 cw(c3.85,8.35) 4.15,8.35 4.15,7.85 ; 4.65,-7.85 4.65,-8.35 ccw(c4.95,-8.35) 5.25,-8.35 5.25,-7.85 ; 4.65,7.85 4.65,8.35 cw(c4.95,8.35) 5.25,8.35 5.25,7.85 ; 5.75,-7.85 5.75,-8.35 ccw(c6.05,-8.35) 6.35,-8.35 6.35,-7.85 ; 8.8,-3.6 9.3,-3.6 ccw(c9.3,-3.3) 9.3,-3 8.8,-3 ; 8.8,-2.5 9.3,-2.5 ccw(c9.3,-2.2) 9.3,-1.9 8.8,-1.9 ; 8.8,-1.4 9.3,-1.4 ccw(c9.3,-1.1) 9.3,-0.8 8.8,-0.8 ; 8.8,-0.3 9.3,-0.3 ccw(c9.3,0) 9.3,0.3 8.8,0.3 ; 8.8,0.8 9.3,0.8 ccw(c9.3,1.1) 9.3,1.4 8.8,1.4 ; 8.8,1.9 9.3,1.9 ccw(c9.3,2.2) 9.3,2.5 ; 8.8,2.5 9.3,2.5 ; 8.8,3 9.3,3 ccw(c9.3,3.3) 9.3,3.6 8.8,3.6 ; 8.8,4.1 9.3,4.1 ccw(c9.3,4.4) 9.3,4.7 8.8,4.7 ; -9.3,4.1 cw(c-9.3,4.4) -9.3,4.7 ; -9.3,4.1 cw(c-9.3,4.4) -9.3,4.7 ; -9.3,4.1 -8.8,4.1 -9.3,4.1 ; -9.3,4.7 -8.8,4.7 -9.3,4.7 ; -6.35,-8.35 ccw(c-6.05,-8.35) -5.75,-8.35 ; -6.35,-8.35 ccw(c-6.05,-8.35) -5.75,-8.35 ; -6.35,-8.35 -6.35,-7.85 -6.35,-8.35 ; -5.75,-8.35 -5.75,-7.85 -5.75,-8.35 ; 5.75,8.35 cw(c6.05,8.35) 6.35,8.35 ; 5.75,8.35 cw(c6.05,8.35) 6.35,8.35 ; 5.75,8.35 5.75,7.85 5.75,8.35 ; 6.35,8.35 6.35,7.85 6.35,8.35 ; 9.3,-4.7 ccw(c9.3,-4.4) 9.3,-4.1 ; 9.3,-4.7 ccw(c9.3,-4.4) 9.3,-4.1 ; 9.3,-4.7 8.8,-4.7 9.3,-4.7 ; 9.3,-4.1 8.8,-4.1 9.3,-4.1 ; -8.8,-7.85 -8.8,7.85 8.8,7.85 8.8,-7.85 -8.8,-7.85 ; -7.9,-6.95 -7.9,6.95 7.9,6.95 7.9,-6.95 -7.9,-6.95
  text "1" at -6.2,-6.6 h0.8
  text "42" at -6.95,-5.1 h0.8
  text "12" at 5.4,-6.7 h0.8
  text "13" at 7.7,-5.1 h0.8
  text "21" at 7.7,3.925 h0.8
  text "22" at 5.45,5.975 h0.8
  text "33" at -6.75,5.61 h0.8
  text "34" at -6.67,3.74 h0.8
3D body "User Library-SIM868.step": height 2.6, standoff 0, extent -8.8,-7.85 8.8,7.85

## STM32F407VG [mm] "LQFP100"
pads (100):
  rrect10% 1.5x0.3 smd mask+0.07: 1(-7.9,6.03) 2(-7.9,5.53) 3(-7.9,5.03) 4(-7.9,4.53) 5(-7.9,4.03) 6(-7.9,3.53) 7(-7.9,3.03) 8(-7.9,2.53) 9(-7.9,2.03) 10(-7.9,1.53) 11(-7.9,1.03) 12(-7.9,0.53) 13(-7.9,0.03) 14(-7.9,-0.47) 15(-7.9,-0.97) 16(-7.9,-1.47) 17(-7.9,-1.97) 18(-7.9,-2.47) 19(-7.9,-2.97) 20(-7.9,-3.47) 21(-7.9,-3.97) 22(-7.9,-4.47) 23(-7.9,-4.97) 24(-7.9,-5.47) 25(-7.9,-5.97) 51(7.9,-5.97) 52(7.9,-5.47) 53(7.9,-4.97) 54(7.9,-4.47) 55(7.9,-3.97) 56(7.9,-3.47) 57(7.9,-2.97) 58(7.9,-2.47) 59(7.9,-1.97) 60(7.9,-1.47) 61(7.9,-0.97) 62(7.9,-0.47) 63(7.9,0.03) 64(7.9,0.53) 65(7.9,1.03) 66(7.9,1.53) 67(7.9,2.03) 68(7.9,2.53) 69(7.9,3.03) 70(7.9,3.53) 71(7.9,4.03) 72(7.9,4.53) 73(7.9,5.03) 74(7.9,5.53) 75(7.9,6.03)
  rrect10% 0.3x1.5 smd mask+0.07: 26(-6,-7.9) 27(-5.5,-7.9) 28(-5,-7.9) 29(-4.5,-7.9) 30(-4,-7.9) 31(-3.5,-7.9) 32(-3,-7.9) 33(-2.5,-7.9) 34(-2,-7.9) 35(-1.5,-7.9) 36(-1,-7.9) 37(-0.5,-7.9) 38(0,-7.9) 39(0.5,-7.9) 40(1,-7.9) 41(1.5,-7.9) 42(2,-7.9) 43(2.5,-7.9) 44(3,-7.9) 45(3.5,-7.9) 46(4,-7.9) 47(4.5,-7.9) 48(5,-7.9) 49(5.5,-7.9) 50(6,-7.9) 76(6,7.9) 77(5.5,7.9) 78(5,7.9) 79(4.5,7.9) 80(4,7.9) 81(3.5,7.9) 82(3,7.9) 83(2.5,7.9) 84(2,7.9) 85(1.5,7.9) 86(1,7.9) 87(0.5,7.9) 88(0,7.9) 89(-0.5,7.9) 90(-1,7.9) 91(-1.5,7.9) 92(-2,7.9) 93(-2.5,7.9) 94(-3,7.9) 95(-3.5,7.9) 96(-4,7.9) 97(-4.5,7.9) 98(-5,7.9) 99(-5.5,7.9) 100(-6,7.9)
Top Overlay:
  circle w0.3: c-6,9 r0.05
  circle w0.3: c-3.5,9 r0.05
  circle w0.3: c-1,9 r0.05
  circle w0.3: c1.5,9 r0.05
  circle w0.3: c4,9 r0.05
  circle w0.3: c9,6 r0.05
  circle w0.3: c9,3.5 r0.05
  circle w0.3: c9,1 r0.05
  circle w0.3: c9,-1.5 r0.05
  circle w0.3: c9,-4 r0.05
  circle w0.3: c6,-9 r0.05
  circle w0.3: c3.5,-9 r0.05
  circle w0.3: c1,-9 r0.05
  circle w0.3: c-1.5,-9 r0.05
  circle w0.3: c-4,-9 r0.05
  circle w0.3: c-8.95,-5.97 r0.05
  circle w0.3: c-8.95,-3.47 r0.05
  circle w0.3: c-8.95,-0.97 r0.05
  circle w0.3: c-8.95,1.53 r0.05
  circle w0.3: c-8.95,4.03 r0.05
  lines w0.3: -9.1,5.93 -9.1,6.58 -9.05,6.63 -6.7,6.63 ; -6.7,-6.72 6.65,-6.72 6.65,6.53 6.55,6.63 -6.7,6.63 ; -6.7,-6.62 -6.7,6.63
Top hinh chieu bang:
  drawing of 308 lines, arcs and shapes, not listed
  text "75" at 6.78,5.2 h0.5
  text "50" at 5.4,-6.8 h0.5
  text "25" at -6.1,-6.1 h0.5
  text "51" at 6.65,-5.9 h0.5
  text "76" at 5.5,6.3 h0.5
  text "100" at -6,6.3 h0.5
  text "26" at -5.9,-6.8 h0.5
  text "1" at -6.4,5.5 h0.5
3D body "User Library-LQFP100-3.STEP": height 1.62, standoff -0.01, extent -8.072,-8.072 8.072,8.072

## STMF103R8T6 [mm] "LQFP64 – 10 x 10 mm 64 pin"
height 1.6
pads (64):
  rrect10% 0.3x1.2 smd mask+0.07: 1(-3.75,-5.75) 2(-3.25,-5.75) 3(-2.75,-5.75) 4(-2.25,-5.75) 5(-1.75,-5.75) 6(-1.25,-5.75) 7(-0.75,-5.75) 8(-0.25,-5.75) 9(0.25,-5.75) 10(0.75,-5.75) 11(1.25,-5.75) 12(1.75,-5.75) 13(2.25,-5.75) 14(2.75,-5.75) 15(3.25,-5.75) 16(3.75,-5.75) 33(3.75,5.75) 34(3.25,5.75) 35(2.75,5.75) 36(2.25,5.75) 37(1.75,5.75) 38(1.25,5.75) 39(0.75,5.75) 40(0.25,5.75) 41(-0.25,5.75) 42(-0.75,5.75) 43(-1.25,5.75) 44(-1.75,5.75) 45(-2.25,5.75) 46(-2.75,5.75) 47(-3.25,5.75) 48(-3.75,5.75)
  rrect10% 1.2x0.3 smd mask+0.07: 17(5.75,-3.75) 18(5.75,-3.25) 19(5.75,-2.75) 20(5.75,-2.25) 21(5.75,-1.75) 22(5.75,-1.25) 23(5.75,-0.75) 24(5.75,-0.25) 25(5.75,0.25) 26(5.75,0.75) 27(5.75,1.25) 28(5.75,1.75) 29(5.75,2.25) 30(5.75,2.75) 31(5.75,3.25) 32(5.75,3.75) 49(-5.75,3.75) 50(-5.75,3.25) 51(-5.75,2.75) 52(-5.75,2.25) 53(-5.75,1.75) 54(-5.75,1.25) 55(-5.75,0.75) 56(-5.75,0.25) 57(-5.75,-0.25) 58(-5.75,-0.75) 59(-5.75,-1.25) 60(-5.75,-1.75) 61(-5.75,-2.25) 62(-5.75,-2.75) 63(-5.75,-3.25) 64(-5.75,-3.75)
Top Overlay:
  circle w0.3: c0.75,-6.669 r0.05
  circle w0.3: c-1.75,-6.669 r0.05
  circle w0.3: c3.25,-6.669 r0.05
  circle w0.3: c6.669,-2.25 r0.05
  circle w0.3: c6.669,0.25 r0.05
  circle w0.3: c6.669,2.75 r0.05
  circle w0.3: c2.75,6.669 r0.05
  circle w0.3: c0.25,6.669 r0.05
  circle w0.3: c-2.25,6.669 r0.05
  circle w0.3: c-6.669,3.25 r0.05
  circle w0.3: c-6.669,0.75 r0.05
  circle w0.3: c-6.669,-1.75 r0.05
  lines w0.3: -4.2,-4.741 -4.2,-6.6 -3.7,-6.6 ; -4.717,-4.741 -4.717,4.7 4.74,4.7 4.74,-4.741 -4.717,-4.741
Top hinh chieu bang:
  drawing of 352 lines, arcs and shapes, not listed
  text "64" at -3.86,-3.32 h0.8
  text "49" at -3.86,2.46 h0.8
  text "48" at -3.7,3.93 h0.8
  text "33" at 2.17,3.93 h0.8
  text "32" at 4.58,2.37 h0.8
  text "17" at 4.58,-3.42 h0.8
  text "16" at 2.52,-4.71 h0.8
  text "1" at -3.7,-4.71 h0.8
3D body "User Library-LQFP-64.step": height 1.6, standoff -0.11, extent -5.975,-5.956 6.025,6.044
3D body "User Library-LQFP64-1.STEP": height 1.56, standoff 0, extent -6,-6 6,6

## TLV73333PDBVR - SOT23-65 [mm] "IC REG LINEAR 3.3V 300MA SOT23-5"
height 0.8
pads (5):
  rrect10% 0.6x1.5 smd: 1(-0.95,-1.7) 2(0,-1.7) 3(0.95,-1.7) 4(0.95,1.5) 5(-0.95,1.5)
Top Overlay:
  lines w0.3: -0.7,-2.73 -1.525,-2.73 -1.525,-0.398 ; -1.525,-0.398 1.525,-0.398 1.525,0.459 -1.525,0.459 -1.525,-0.398
Top hinh chieu bang:
  lines w0.05: -1.249,-0.878 -1.249,-1.839 -0.654,-1.839 -0.654,-0.875 ; -1.246,0.875 -1.246,1.839 -0.651,1.839 -0.651,0.878 ; -0.299,-0.878 -0.299,-1.839 0.296,-1.839 0.296,-0.875 ; 0.651,-0.878 0.651,-1.839 1.246,-1.839 1.246,-0.875 ; 0.654,0.875 0.654,1.839 1.249,1.839 1.249,0.878 ; -1.525,-0.875 -1.525,0.875 1.525,0.875 1.525,-0.875 -1.525,-0.875
  text "1" at -1.055,-0.75 h0.4
  text "3" at 0.846,-0.745 h0.4
  text "4" at 0.817,0.374 h0.4
  text "5" at -1.074,0.336 h0.4
3D body "CircuitWorks-SOT-23-5.step": height 0.95, standoff -0.15, extent -1.5,-1.25 1.5,1.25

## TPS54360 [mm] "R-PDSO-G8,V Input, 3.5-A, Step-Down DC/DC Converter"
height 1.7
pads (15):
  rrect10% 0.5x2.2 smd mask+0.07: 1(-1.905,-2.875) 2(-0.635,-2.875) 3(0.635,-2.875) 4(1.905,-2.875) 5(1.905,2.875) 6(0.635,2.875) 7(-0.635,2.875) 8(-1.905,2.875)
  round 0.33 hole 0.33 mask+0.2: 9(-1.25,-0.75) 9(-1.25,0.75) 9(0,-0.75) 9(0,0.75) 9(1.25,-0.75) 9(1.25,0.75)
  rrect10% 3.1x2.4 smd mask+0: 9(0,0)
Top Overlay:
  lines w0: -2.427,-2 -2.427,-1.485
  lines w0.3: -2.427,-1.485 -2.427,-4.273 -1.649,-4.273 ; -2.65,-1.469 -2.65,1.498 2.65,1.498 2.65,-1.469 -2.65,-1.469
Top Solder:
  rectangle: -2.45,-1.475 2.45,1.475
Top hinh chieu bang:
  lines w0.05: -2.155,2 -2.155,3.975 -1.655,3.975 -1.655,2 ; -0.885,-2 -0.885,-3.975 -0.385,-3.975 -0.385,-2 ; -0.885,2 -0.885,3.975 -0.385,3.975 -0.385,2 ; 0.385,-2 0.385,-3.975 0.885,-3.975 0.885,-2 ; 0.385,2 0.385,3.975 0.885,3.975 0.885,2 ; 1.655,-2 1.655,-3.975 2.155,-3.975 2.155,-2 ; 1.655,2 1.655,3.975 2.155,3.975 2.155,2 ; -2.5,-2 2.5,-2 2.5,2 -2.5,2 -2.5,-2 ; -2.155,-3.975 -2.155,-2 -1.655,-2 -1.655,-3.975 -2.155,-3.975
  text "8" at 1.655,-1 h0.8
  text "5" at 1.596,0.803 h0.8
  text "4" at 1.596,-1.515 h0.8
  text "1" at -2.089,-1.515 h0.8
3D body "User Library-TPS54360DDA.step": height 1.53, standoff -0.06, extent -2.5,-3.1 2.5,3.1